# EAGLE library part LTC3890-1 (library PowerProducts)
60V Low IQ, Dual, 2-Phase Synchronous Step-Down DC/DC Controller
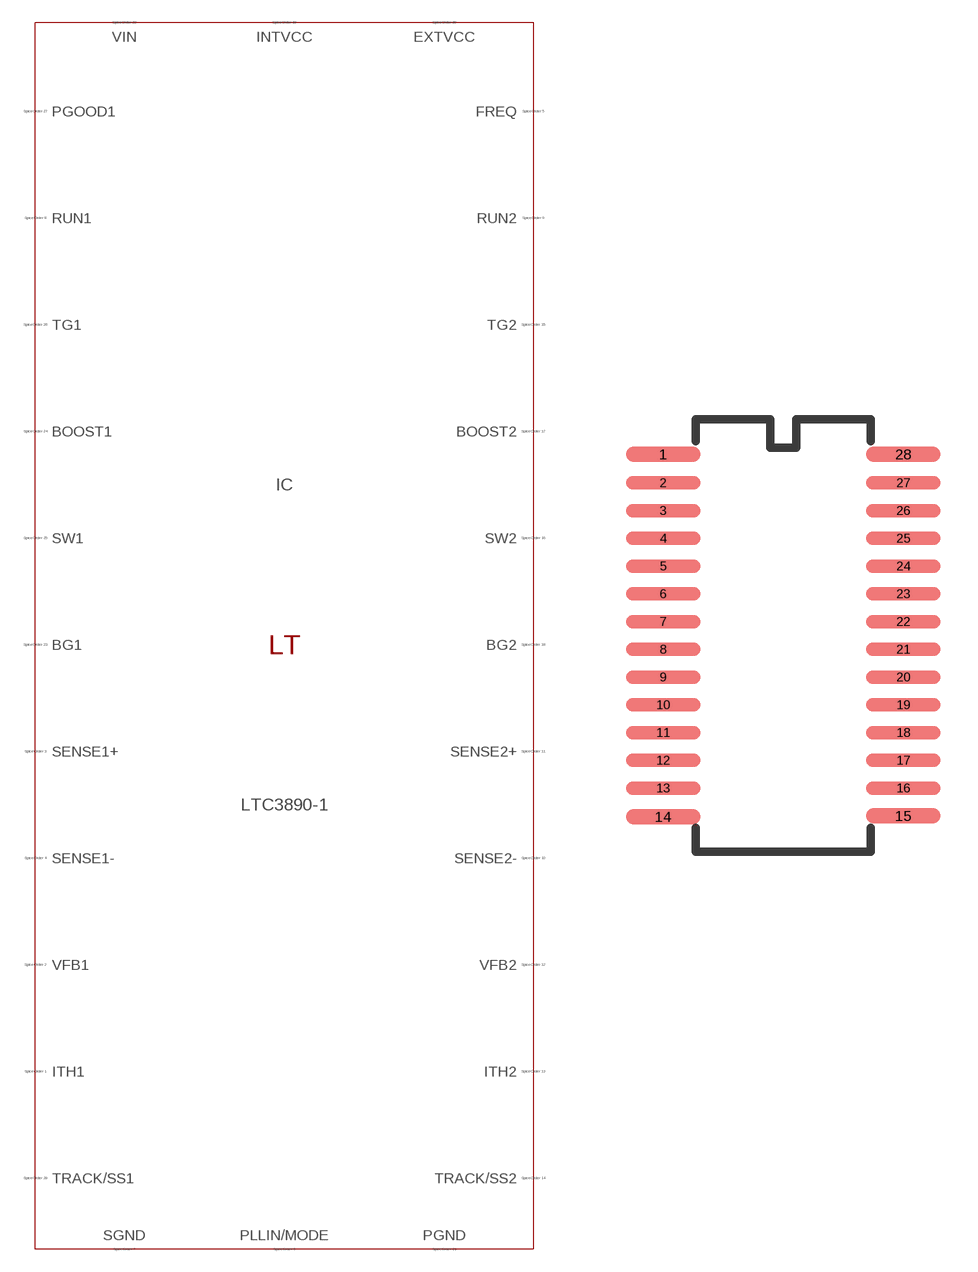
[diagram p393: symbol with the pads of SSOP28(GN); footprint SSOP28(GN)]

Designator prefix IC

## LTC3890-1 (SPICEMODEL: LTC3890-1.sub; SPICEPREFIX: X; VALUE2: LTC3890-1)  [SSOP28(GN)]
1  ITH1  pas
2  VFB1  pas
3  SENSE1+  pas
4  SENSE1-  pas
5  FREQ  pas
6  PLLIN/MODE  pas
7  SGND  pas
8  RUN1  pas
9  RUN2  pas
10  SENSE2-  pas
11  SENSE2+  pas
12  VFB2  pas
13  ITH2  pas
14  TRACK/SS2  pas
15  TG2  pas
16  SW2  pas
17  BOOST2  pas
18  BG2  pas
19  INTVCC  pas
20  EXTVCC  pas
21  PGND  pas
22  VIN  pas
23  BG1  pas
24  BOOST1  pas
25  SW1  pas
26  TG1  pas
27  PGOOD1  pas
28  TRACK/SS1  pas

## Footprint SSOP28(GN) (pad centres in mm)
Package generated from: SSOP28(GN).asc (!PADS-POWERPCB-V5.0-BASIC! DESIGN DATABASE ASCII FILE 1.0) with :import-pads-powerpcb-v5.ulp Version 1.0.1 at 04.10.2012 14:11:39
smd 2.55 x 0.525: 1 -4.123,6.221; 14 -4.123,-6.221; 15 4.123,-6.191; 28 4.123,6.221
smd 2.55 x 0.458: 2 -4.123,5.239; 3 -4.123,4.286; 4 -4.123,3.334; 5 -4.123,2.381; 6 -4.123,1.429; 7 -4.123,0.476; 8 -4.123,-0.476; 9 -4.123,-1.429; 10 -4.123,-2.381; 11 -4.123,-3.334; 12 -4.123,-4.286; 13 -4.123,-5.239; 16 4.123,-5.239; 17 4.123,-4.286; 18 4.123,-3.334; 19 4.123,-2.381; 20 4.123,-1.429; 21 4.123,-0.476; 22 4.123,0.476; 23 4.123,1.429; 24 4.123,2.381; 25 4.123,3.334; 26 4.123,4.286; 27 4.123,5.239